# Altium integrated library ON Semi Signal Management Modems & Transceivers.IntLib: 97 symbols (part 1 of 5)
Pins are listed as number, name and electrical type; pins without a type are passive.

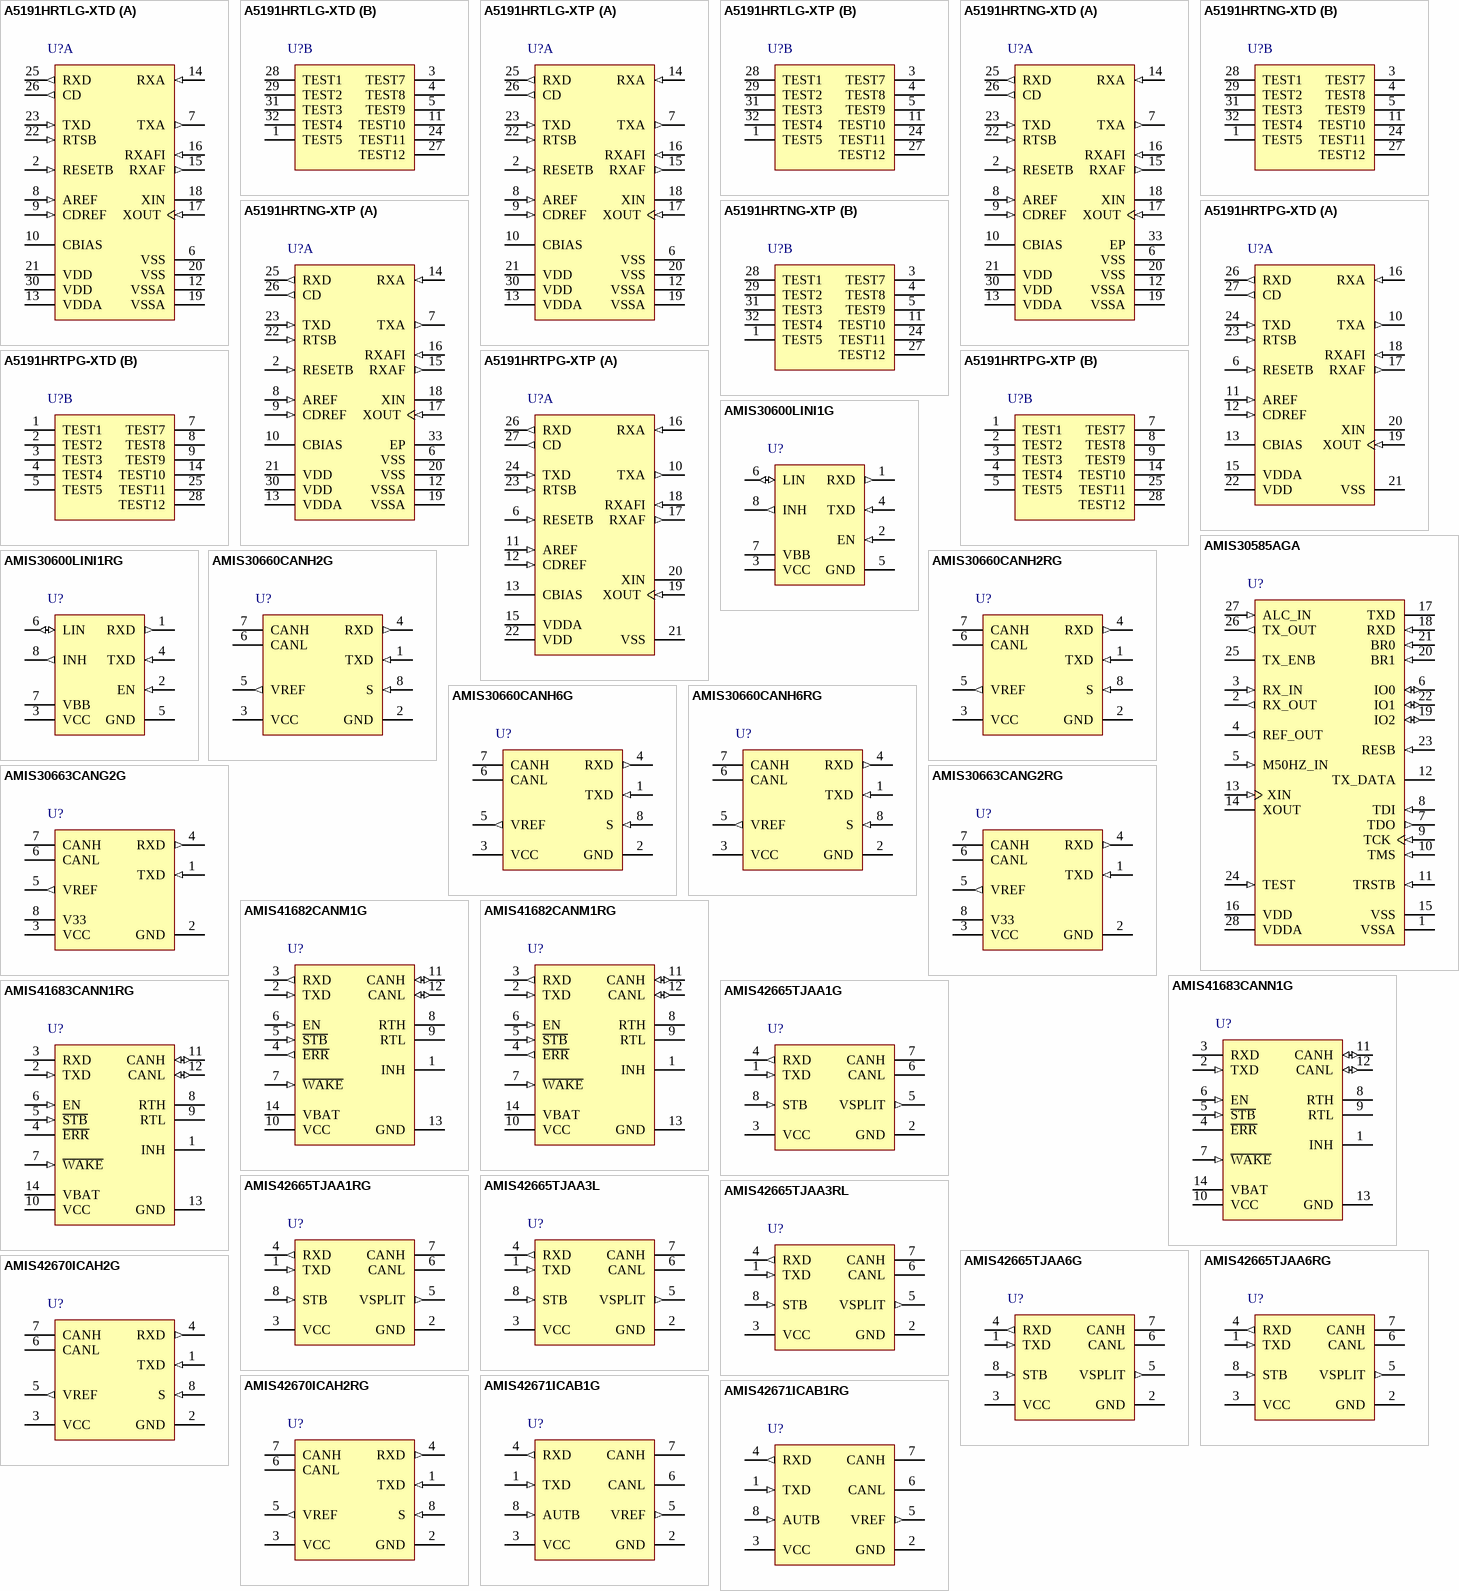
[diagram p0: symbols A5191HRTLG-XTD to AMIS42671ICAB1RG]

## A5191HRTLG-XTD
designator U?
HART Modem, 3 to 5.5 V, -40 to 85 degC, 32-Pin LQFP, Pb-Free, Tray; Manufacturer: On Semiconductor; PartNumber: A5191HRTLG-XTD; Data Rate: 1200 baud; Number of Drivers: 1; VCC Max (V): 5.5; VCC Min (V): 3; DatasheetVersion: Rev. 7; PackageVersion: Rev. O, 06/2008; PackageReference: LQFP-32-561AB-01; PackageDescription: 32-Pin Quad Flat Package, Body 7 x 7 mm, Pitch 0.8 mm; Supplier 1: Digi-Key; Supplier Part Number 1: 766-1011-ND; Supplier 2: Farnell; Supplier Part Number 2: 1641443; Supplier 3: Newark; Supplier Part Number 3: 03P1166; Supplier 4: Mouser; Supplier Part Number 4: 863-A5191HRTLG-XTD; Data Transmission Standard: HART; Number of Receivers: 1; Packing: Tray; RoHS: TRUE; Mounting Technology: Surface Mount; ComponentLink1Description: Manufacturer URL; ComponentLink1URL: http://www.onsemi.com/; ComponentLink2Description: Datasheet; ComponentLink2URL: http://www.onsemi.com/pub_link/Collateral/A5191HRT-D.PDF; ComponentLink3Description: Package Specification; ComponentLink3URL: http://www.onsemi.com/pub_link/Collateral/561AB.PDF
footprint ONSC-LQFP-32-561AB-01_N (QFP, 32-Leads, Body 7x7mm, Pitch 0.8mm, IPC Medium Density)
footprint ONSC-LQFP-32-561AB-01_L (QFP, 32-Leads, Body 7x7mm, Pitch 0.8mm, IPC High Density)
footprint ONSC-LQFP-32-561AB-01_M (QFP, 32-Leads, Body 7x7mm, Pitch 0.8mm, IPC Low Density)
part A pins: 2 RESETB (in) "Reset all digital logic when low", 6 VSS (power) "Digital ground", 7 TXA (out) "Transmit Data Modulator output", 8 AREF (in) "Analog reference voltage", 9 CDREF (in) "Carrier detect reference voltage", 10 CBIAS "Comparator bias current", 12 VSSA (power) "Analog ground", 13 VDDA (power) "Analog supply voltage", 14 RXA (in) "Receive Data Modulator input", 15 RXAF (out) "Analog receive filter output", 16 RXAFI (in) "Analog receive comparator input", 17 XOUT (in) "Crystal oscillator output", 18 XIN "Crystal oscillator input", 19 VSSA (power) "Analog ground", 20 VSS (power) "Ground", 21 VDD (power) "Digital supply voltage", 22 RTSB (in) "Request to send", 23 TXD (in) "Input transmit date, transmitted HART data stream from microcontroller", 25 RXD (out) "Received demodulated HART data to microcontroller", 26 CD (out) "Carrier detect output", 30 VDD (power) "Digital supply voltage"
part B pins: 1 TEST5 (power) "Connect to VSS", 3 TEST7 (power) "Connect to VSS", 4 TEST8 (power) "Connect to VSS", 5 TEST9 (power) "Connect to VSS", 11 TEST10 (power) "Connect to VSS", 24 TEST11 "Do Not Connect", 27 TEST12 "Do Not Connect", 28 TEST1 (power) "Connect to VSS", 29 TEST2 "Do Not Connect", 31 TEST3 "Do Not Connect", 32 TEST4 "Do Not Connect"

## A5191HRTLG-XTP
designator U?
HART Modem, 3 to 5.5 V, -40 to 85 degC, 32-Pin LQFP, Pb-Free, Tape and Reel; Manufacturer: On Semiconductor; PartNumber: A5191HRTLG-XTP; Data Rate: 1200 baud; Number of Drivers: 1; VCC Max (V): 5.5; VCC Min (V): 3; DatasheetVersion: Rev. 7; PackageVersion: Rev. O, 06/2008; PackageReference: LQFP-32-561AB-01; PackageDescription: 32-Pin Quad Flat Package, Body 7 x 7 mm, Pitch 0.8 mm; Supplier 1: Digi-Key; Supplier Part Number 1: A5191HRTLG-XTPOSTR-ND; Supplier 2: Digi-Key; Supplier Part Number 2: A5191HRTLG-XTPOSCT-ND; Supplier 3: Digi-Key; Supplier Part Number 3: A5191HRTLG-XTPOSDKR-ND; Supplier 4: Newark; Supplier Part Number 4: 51P3131; Supplier 5: Mouser; Supplier Part Number 5: 863-A5191HRTLG-XTP; Data Transmission Standard: HART; Number of Receivers: 1; Packing: Tape and Reel; RoHS: TRUE; Mounting Technology: Surface Mount; ComponentLink1Description: Manufacturer URL; ComponentLink1URL: http://www.onsemi.com/; ComponentLink2Description: Datasheet; ComponentLink2URL: http://www.onsemi.com/pub_link/Collateral/A5191HRT-D.PDF; ComponentLink3Description: Package Specification; ComponentLink3URL: http://www.onsemi.com/pub_link/Collateral/561AB.PDF
footprint ONSC-LQFP-32-561AB-01_N (QFP, 32-Leads, Body 7x7mm, Pitch 0.8mm, IPC Medium Density)
footprint ONSC-LQFP-32-561AB-01_L (QFP, 32-Leads, Body 7x7mm, Pitch 0.8mm, IPC High Density)
footprint ONSC-LQFP-32-561AB-01_M (QFP, 32-Leads, Body 7x7mm, Pitch 0.8mm, IPC Low Density)
part A pins: 2 RESETB (in) "Reset all digital logic when low", 6 VSS (power) "Digital ground", 7 TXA (out) "Transmit Data Modulator output", 8 AREF (in) "Analog reference voltage", 9 CDREF (in) "Carrier detect reference voltage", 10 CBIAS "Comparator bias current", 12 VSSA (power) "Analog ground", 13 VDDA (power) "Analog supply voltage", 14 RXA (in) "Receive Data Modulator input", 15 RXAF (out) "Analog receive filter output", 16 RXAFI (in) "Analog receive comparator input", 17 XOUT (in) "Crystal oscillator output", 18 XIN "Crystal oscillator input", 19 VSSA (power) "Analog ground", 20 VSS (power) "Ground", 21 VDD (power) "Digital supply voltage", 22 RTSB (in) "Request to send", 23 TXD (in) "Input transmit date, transmitted HART data stream from microcontroller", 25 RXD (out) "Received demodulated HART data to microcontroller", 26 CD (out) "Carrier detect output", 30 VDD (power) "Digital supply voltage"
part B pins: 1 TEST5 (power) "Connect to VSS", 3 TEST7 (power) "Connect to VSS", 4 TEST8 (power) "Connect to VSS", 5 TEST9 (power) "Connect to VSS", 11 TEST10 (power) "Connect to VSS", 24 TEST11 "Do Not Connect", 27 TEST12 "Do Not Connect", 28 TEST1 (power) "Connect to VSS", 29 TEST2 "Do Not Connect", 31 TEST3 "Do Not Connect", 32 TEST4 "Do Not Connect"

## A5191HRTNG-XTD
designator U?
HART Modem, 3 to 5.5 V, -40 to 85 degC, 32-Pin QFN, Pb-Free, Tube; Manufacturer: On Semiconductor; PartNumber: A5191HRTNG-XTD; Data Rate: 1200 baud; Number of Drivers: 1; VCC Max (V): 5.5; VCC Min (V): 3; DatasheetVersion: Rev. 7; PackageVersion: Rev. O; PackageReference: QFN-32-488AM-01_O; PackageDescription: 32-Pin Quad Flat No-Lead, Body 5 x 5 mm, Pitch 0.5 mm; Supplier 1: Digi-Key; Supplier Part Number 1: A5191HRTNG-XTDOS-ND; Supplier 2: Mouser; Supplier Part Number 2: 863-A5191HRTNG-XTD; Data Transmission Standard: HART; Number of Receivers: 1; Packing: Tube; RoHS: TRUE; Mounting Technology: Surface Mount; ComponentLink1Description: Manufacturer URL; ComponentLink1URL: http://www.onsemi.com/; ComponentLink2Description: Datasheet; ComponentLink2URL: http://www.onsemi.com/pub_link/Collateral/A5191HRT-D.PDF; ComponentLink3Description: Package Specification; ComponentLink3URL: http://www.onsemi.com/pub_link/Collateral/MC100EPT622-D.PDF
footprint ONSC-QFN-32-488AM-01_O_V (QFN, 32-Leads, Body 5x5mm, Pitch 0.5mm, Thermal Pad 3.2x3.2mm)
part A pins: 2 RESETB (in) "Reset all digital logic when low", 6 VSS (power) "Digital ground", 7 TXA (out) "Transmit Data Modulator output", 8 AREF (in) "Analog reference voltage", 9 CDREF (in) "Carrier detect reference voltage", 10 CBIAS "Comparator bias current", 12 VSSA (power) "Analog ground", 13 VDDA (power) "Analog supply voltage", 14 RXA (in) "Receive Data Modulator input", 15 RXAF (out) "Analog receive filter output", 16 RXAFI (in) "Analog receive comparator input", 17 XOUT (in) "Crystal oscillator output", 18 XIN "Crystal oscillator input", 19 VSSA (power) "Analog ground", 20 VSS (power) "Ground", 21 VDD (power) "Digital supply voltage", 22 RTSB (in) "Request to send", 23 TXD (in) "Input transmit date, transmitted HART data stream from microcontroller", 25 RXD (out) "Received demodulated HART data to microcontroller", 26 CD (out) "Carrier detect output", 30 VDD (power) "Digital supply voltage", 33 EP (power) "Connect to VSS (QFN only)"
part B pins: 1 TEST5 (power) "Connect to VSS", 3 TEST7 (power) "Connect to VSS", 4 TEST8 (power) "Connect to VSS", 5 TEST9 (power) "Connect to VSS", 11 TEST10 (power) "Connect to VSS", 24 TEST11 "Do Not Connect", 27 TEST12 "Do Not Connect", 28 TEST1 (power) "Connect to VSS", 29 TEST2 "Do Not Connect", 31 TEST3 "Do Not Connect", 32 TEST4 "Do Not Connect"

## A5191HRTNG-XTP
designator U?
HART Modem, 3 to 5.5 V, -40 to 85 degC, 32-Pin QFN, Pb-Free, Tape and Reel; Manufacturer: On Semiconductor; PartNumber: A5191HRTNG-XTP; Data Rate: 1200 baud; Number of Drivers: 1; VCC Max (V): 5.5; VCC Min (V): 3; DatasheetVersion: Rev. 7; PackageVersion: Rev. O; PackageReference: QFN-32-488AM-01_O; PackageDescription: 32-Pin Quad Flat No-Lead, Body 5 x 5 mm, Pitch 0.5 mm; Supplier 1: Digi-Key; Supplier Part Number 1: A5191HRTNG-XTP-ND; Supplier 2: Mouser; Supplier Part Number 2: 863-A5191HRTNG-XTP; Data Transmission Standard: HART; Number of Receivers: 1; Packing: Tape and Reel; RoHS: TRUE; Mounting Technology: Surface Mount; ComponentLink1Description: Manufacturer URL; ComponentLink1URL: http://www.onsemi.com/; ComponentLink2Description: Datasheet; ComponentLink2URL: http://www.onsemi.com/pub_link/Collateral/A5191HRT-D.PDF; ComponentLink3Description: Package Specification; ComponentLink3URL: http://www.onsemi.com/pub_link/Collateral/MC100EPT622-D.PDF
footprint ONSC-QFN-32-488AM-01_O_V (QFN, 32-Leads, Body 5x5mm, Pitch 0.5mm, Thermal Pad 3.2x3.2mm)
part A pins: 2 RESETB (in) "Reset all digital logic when low", 6 VSS (power) "Digital ground", 7 TXA (out) "Transmit Data Modulator output", 8 AREF (in) "Analog reference voltage", 9 CDREF (in) "Carrier detect reference voltage", 10 CBIAS "Comparator bias current", 12 VSSA (power) "Analog ground", 13 VDDA (power) "Analog supply voltage", 14 RXA (in) "Receive Data Modulator input", 15 RXAF (out) "Analog receive filter output", 16 RXAFI (in) "Analog receive comparator input", 17 XOUT (in) "Crystal oscillator output", 18 XIN "Crystal oscillator input", 19 VSSA (power) "Analog ground", 20 VSS (power) "Ground", 21 VDD (power) "Digital supply voltage", 22 RTSB (in) "Request to send", 23 TXD (in) "Input transmit date, transmitted HART data stream from microcontroller", 25 RXD (out) "Received demodulated HART data to microcontroller", 26 CD (out) "Carrier detect output", 30 VDD (power) "Digital supply voltage", 33 EP (power) "Connect to VSS (QFN only)"
part B pins: 1 TEST5 (power) "Connect to VSS", 3 TEST7 (power) "Connect to VSS", 4 TEST8 (power) "Connect to VSS", 5 TEST9 (power) "Connect to VSS", 11 TEST10 (power) "Connect to VSS", 24 TEST11 "Do Not Connect", 27 TEST12 "Do Not Connect", 28 TEST1 (power) "Connect to VSS", 29 TEST2 "Do Not Connect", 31 TEST3 "Do Not Connect", 32 TEST4 "Do Not Connect"

## A5191HRTPG-XTD
designator U?
HART Modem, 3 to 5.5 V, -40 to 85 degC, 28-Pin PLCC, Pb-Free, Tube; Manufacturer: On Semiconductor; PartNumber: A5191HRTPG-XTD; Data Rate: 1200 baud; Number of Drivers: 1; VCC Max (V): 5.5; VCC Min (V): 3; DatasheetVersion: Rev. 7; PackageVersion: Rev. O, 06/2008; PackageReference: PLCC-28-776AA-01; PackageDescription: 28-Pin Plastic Leaded Chip Carrier, Body 11.51 x 11.51 mm, Pitch 1.27 mm; Supplier 1: Digi-Key; Supplier Part Number 1: 766-1012-ND; Supplier 2: Newark; Supplier Part Number 2: 03P1167; Supplier 3: Mouser; Supplier Part Number 3: 863-A5191HRTPG-XTD; Data Transmission Standard: HART; Number of Receivers: 1; Packing: Tube; RoHS: TRUE; Mounting Technology: Surface Mount; ComponentLink1Description: Manufacturer URL; ComponentLink1URL: http://www.onsemi.com/; ComponentLink2Description: Datasheet; ComponentLink2URL: http://www.onsemi.com/pub_link/Collateral/A5191HRT-D.PDF; ComponentLink3Description: Package Specification; ComponentLink3URL: http://www.onsemi.com/pub_link/Collateral/776AA.PDF
footprint ONSC-PLCC-28-776AA-01_N (PLCC, 28-Leads, Body 11.58x11.58mm, Pitch 1.27mm, IPC Medium Density)
footprint ONSC-PLCC-28-776AA-01_L (PLCC, 28-Leads, Body 11.58x11.58mm, Pitch 1.27mm, IPC High Density)
footprint ONSC-PLCC-28-776AA-01_M (PLCC, 28-Leads, Body 11.58x11.58mm, Pitch 1.27mm, IPC Low Density)
part A pins: 6 RESETB (in) "Reset all digital logic when low", 10 TXA (out) "Transmit Data Modulator output", 11 AREF (in) "Analog reference voltage", 12 CDREF (in) "Carrier detect reference voltage", 13 CBIAS "Comparator bias current", 15 VDDA (power) "Analog supply voltage", 16 RXA (in) "Receive Data Modulator input", 17 RXAF (out) "Analog receive filter output", 18 RXAFI (in) "Analog receive comparator input", 19 XOUT (in) "Crystal oscillator output", 20 XIN "Crystal oscillator input", 21 VSS (power) "Ground", 22 VDD (power) "Digital supply voltage", 23 RTSB (in) "Request to send", 24 TXD (in) "Input transmit date, transmitted HART data stream from microcontroller", 26 RXD (out) "Received demodulated HART data to microcontroller", 27 CD (out) "Carrier detect output"
part B pins: 1 TEST1 (power) "Connect to VSS", 2 TEST2 "Do Not Connect", 3 TEST3 "Do Not Connect", 4 TEST4 "Do Not Connect", 5 TEST5 (power) "Connect to VSS", 7 TEST7 (power) "Connect to VSS", 8 TEST8 (power) "Connect to VSS", 9 TEST9 (power) "Connect to VSS", 14 TEST10 (power) "Connect to VSS", 25 TEST11 "Do Not Connect", 28 TEST12 "Do Not Connect"

## A5191HRTPG-XTP
designator U?
HART Modem, 3 to 5.5 V, -40 to 85 degC, 28-Pin PLCC, Pb-Free, Tape and Reel; Manufacturer: On Semiconductor; PartNumber: A5191HRTPG-XTP; Data Rate: 1200 baud; Number of Drivers: 1; VCC Max (V): 5.5; VCC Min (V): 3; DatasheetVersion: Rev. 7; PackageVersion: Rev. O, 06/2008; PackageReference: PLCC-28-776AA-01; PackageDescription: 28-Pin Plastic Leaded Chip Carrier, Body 11.51 x 11.51 mm, Pitch 1.27 mm; Supplier 1: Digi-Key; Supplier Part Number 1: A5191HRTPG-XTPOSTR-ND; Supplier 2: Digi-Key; Supplier Part Number 2: A5191HRTPG-XTPOSCT-ND; Supplier 3: Digi-Key; Supplier Part Number 3: A5191HRTPG-XTPOSDKR-ND; Supplier 4: Newark; Supplier Part Number 4: 05R9021; Supplier 5: Mouser; Supplier Part Number 5: 863-A5191HRTPG-XTP; Data Transmission Standard: HART; Number of Receivers: 1; Packing: Tape and Reel; RoHS: TRUE; Mounting Technology: Surface Mount; ComponentLink1Description: Manufacturer URL; ComponentLink1URL: http://www.onsemi.com/; ComponentLink2Description: Datasheet; ComponentLink2URL: http://www.onsemi.com/pub_link/Collateral/A5191HRT-D.PDF; ComponentLink3Description: Package Specification; ComponentLink3URL: http://www.onsemi.com/pub_link/Collateral/776AA.PDF
footprint ONSC-PLCC-28-776AA-01_N (PLCC, 28-Leads, Body 11.58x11.58mm, Pitch 1.27mm, IPC Medium Density)
footprint ONSC-PLCC-28-776AA-01_L (PLCC, 28-Leads, Body 11.58x11.58mm, Pitch 1.27mm, IPC High Density)
footprint ONSC-PLCC-28-776AA-01_M (PLCC, 28-Leads, Body 11.58x11.58mm, Pitch 1.27mm, IPC Low Density)
part A pins: 6 RESETB (in) "Reset all digital logic when low", 10 TXA (out) "Transmit Data Modulator output", 11 AREF (in) "Analog reference voltage", 12 CDREF (in) "Carrier detect reference voltage", 13 CBIAS "Comparator bias current", 15 VDDA (power) "Analog supply voltage", 16 RXA (in) "Receive Data Modulator input", 17 RXAF (out) "Analog receive filter output", 18 RXAFI (in) "Analog receive comparator input", 19 XOUT (in) "Crystal oscillator output", 20 XIN "Crystal oscillator input", 21 VSS (power) "Ground", 22 VDD (power) "Digital supply voltage", 23 RTSB (in) "Request to send", 24 TXD (in) "Input transmit date, transmitted HART data stream from microcontroller", 26 RXD (out) "Received demodulated HART data to microcontroller", 27 CD (out) "Carrier detect output"
part B pins: 1 TEST1 (power) "Connect to VSS", 2 TEST2 "Do Not Connect", 3 TEST3 "Do Not Connect", 4 TEST4 "Do Not Connect", 5 TEST5 (power) "Connect to VSS", 7 TEST7 (power) "Connect to VSS", 8 TEST8 (power) "Connect to VSS", 9 TEST9 (power) "Connect to VSS", 14 TEST10 (power) "Connect to VSS", 25 TEST11 "Do Not Connect", 28 TEST12 "Do Not Connect"

## AMIS30585AGA
designator U?
S-FSK PLC Modem, 3 to 3.6 V, -25 to 70 degC, 28-Pin PLCC, Pb-Free, Tube; Manufacturer: On Semiconductor; PartNumber: AMIS30585AGA; Number of Drivers: 1; VCC Max (V): 3.6; VCC Min (V): 3; DatasheetVersion: Rev. 2; PackageVersion: Rev. O, 06/2008; PackageReference: PLCC-28-776AA-01; PackageDescription: 28-Pin Plastic Leaded Chip Carrier, Body 11.51 x 11.51 mm, Pitch 1.27 mm; Data Transmission Standard: S-FSK; Number of Receivers: 1; Packing: Tube; RoHS: TRUE; Mounting Technology: Surface Mount; ComponentLink1Description: Manufacturer URL; ComponentLink1URL: http://www.onsemi.com/; ComponentLink2Description: Datasheet; ComponentLink2URL: http://www.onsemi.com/pub_link/Collateral/AMIS-30585-D.PDF; ComponentLink3Description: Package Specification; ComponentLink3URL: http://www.onsemi.com/pub_link/Collateral/776AA.PDF
footprint ONSC-PLCC-28-776AA-01_N (PLCC, 28-Leads, Body 11.58x11.58mm, Pitch 1.27mm, IPC Medium Density)
footprint ONSC-PLCC-28-776AA-01_L (PLCC, 28-Leads, Body 11.58x11.58mm, Pitch 1.27mm, IPC High Density)
footprint ONSC-PLCC-28-776AA-01_M (PLCC, 28-Leads, Body 11.58x11.58mm, Pitch 1.27mm, IPC Low Density)
pins: 1 VSSA (power) "Analog ground", 2 RX_OUT (out) "Output of input stage opamp", 3 RX_IN (in) "Positive input of input stage opamp", 4 REF_OUT (out) "Reference output for stabilization", 5 M50HZ_IN (in) "50.60 Hz input", 6 IO0 (io) "Programmable IO pin (open drain)", 7 TDO (out) "Test data output", 8 TDI (in) "Test data output (internal pull down)", 9 TCK (in) "Test clock (internal pull down)", 10 TMS (in) "Test mode select (internal pull down)", 11 TRSTB (in) "Test reset bar (internal pull down, active low)", 12 TX_DATA (oc) "Data output corresponding to transmitted frequency", 13 XIN (in) "Xtal input (can be driven by an internal clock)", 14 XOUT "Xtal output (output floating when XIN driven by external clock)", 15 VSS (power) "Digital ground", 16 VDD (power) "3.3 V digital supply", 17 TXD (oc) "SCI transmit output (open drain)", 18 RXD (in) "SCI receive input (Schmitt trigger output)", 19 IO2 (io) "Programmable IO pin + interrupt (open drain)", 20 BR1 (in) "SCI baud rate selection", 21 BR0 (in) "SCI baud rate selection", 22 IO1 (io) "Programmable IO pin (open drain)", 23 RESB (in) "Master reset bar (Schmitt trigger input, active low)", 24 TEST (in) "Test enable (internal pull down)", 25 TX_ENB (oc) "TX enable bar (open drain)", 26 TX_OUT (out) "Transmitter output", 27 ALC_IN (in) "Automatic level control input", 28 VDDA (power) "3.3 V analog supply"

## AMIS30600LINI1G
designator U?
LIN Transceiver, 4.75 to 5.25 V, -40 to 125 degC, 8-Pin SOIC, Pb-Free, Tube; Manufacturer: On Semiconductor; PartNumber: AMIS30600LINI1G; Data Rate: 20 kbaud; Number of Drivers: 1; VCC Max (V): 5.25; VCC Min (V): 4.75; DatasheetVersion: Rev. 8; PackageVersion: Rev. O, 09/2008; PackageReference: SOIC-8-751AZ-01; PackageDescription: 8-Pin Small Outline Integrated Circuit, Body 4.9 x 3.9 mm, Pitch 1.27 mm; Supplier 1: Digi-Key; Supplier Part Number 1: 766-1013-ND; Supplier 2: Mouser; Supplier Part Number 2: 863-AMIS30600LINI1G; Data Transmission Standard: LIN; Number of Receivers: 1; Packing: Tube; RoHS: TRUE; Mounting Technology: Surface Mount; ComponentLink1Description: Manufacturer URL; ComponentLink1URL: http://www.onsemi.com/; ComponentLink2Description: Datasheet; ComponentLink2URL: http://www.onsemi.com/pub_link/Collateral/AMIS-30600-D.PDF; ComponentLink3Description: Package Specification; ComponentLink3URL: http://www.onsemi.com/pub_link/Collateral/751AZ.PDF
footprint ONSC-SOIC-8-751AZ-01_N (SOIC, 8-Leads, Body 5x4mm, Pitch 1.27mm, IPC Medium Density)
footprint ONSC-SOIC-8-751AZ-01_L (SOIC, 8-Leads, Body 5x4mm, Pitch 1.27mm, IPC High Density)
footprint ONSC-SOIC-8-751AZ-01_M (SOIC, 8-Leads, Body 5x4mm, Pitch 1.27mm, IPC Low Density)
pins: 1 RXD (out) "Receive data output; low in dominant state", 2 EN (in) "Enable input; transceiver in normal operation mode when high", 3 VCC (power) "5V supply input", 4 TXD (in) "Transmit data input; low in dominant state; internal 40 k ohm pullup", 5 GND (power) "Ground", 6 LIN (io) "LIN bus output/input; low in dominant state; internal 30 k ohm pullup", 7 VBB (power) "Battery supply input", 8 INH (out) "Inhibit output; to control a voltage regulator; becomes high when wake-up via LIN bus occurs"

## AMIS30600LINI1RG
designator U?
LIN Transceiver, 4.75 to 5.25 V, -40 to 125 degC, 8-Pin SOIC, Pb-Free, Tape and Reel; Manufacturer: On Semiconductor; PartNumber: AMIS30600LINI1RG; Data Rate: 20 kbaud; Number of Drivers: 1; VCC Max (V): 5.25; VCC Min (V): 4.75; DatasheetVersion: Rev. 8; PackageVersion: Rev. O, 09/2008; PackageReference: SOIC-8-751AZ-01; PackageDescription: 8-Pin Small Outline Integrated Circuit, Body 4.9 x 3.9 mm, Pitch 1.27 mm; Supplier 1: Digi-Key; Supplier Part Number 1: 766-1000-2-ND; Supplier 2: Digi-Key; Supplier Part Number 2: 766-1000-1-ND; Supplier 3: Digi-Key; Supplier Part Number 3: 766-1000-6-ND; Supplier 4: Newark; Supplier Part Number 4: 03P1153; Supplier 5: Mouser; Supplier Part Number 5: 863-AMIS30600LINI1RG; Data Transmission Standard: LIN; Number of Receivers: 1; Packing: Tape and Reel; RoHS: TRUE; Mounting Technology: Surface Mount; ComponentLink1Description: Manufacturer URL; ComponentLink1URL: http://www.onsemi.com/; ComponentLink2Description: Datasheet; ComponentLink2URL: http://www.onsemi.com/pub_link/Collateral/AMIS-30600-D.PDF; ComponentLink3Description: Package Specification; ComponentLink3URL: http://www.onsemi.com/pub_link/Collateral/751AZ.PDF
footprint ONSC-SOIC-8-751AZ-01_N (SOIC, 8-Leads, Body 5x4mm, Pitch 1.27mm, IPC Medium Density)
footprint ONSC-SOIC-8-751AZ-01_L (SOIC, 8-Leads, Body 5x4mm, Pitch 1.27mm, IPC High Density)
footprint ONSC-SOIC-8-751AZ-01_M (SOIC, 8-Leads, Body 5x4mm, Pitch 1.27mm, IPC Low Density)
pins: 1 RXD (out) "Receive data output; low in dominant state", 2 EN (in) "Enable input; transceiver in normal operation mode when high", 3 VCC (power) "5V supply input", 4 TXD (in) "Transmit data input; low in dominant state; internal 40 k ohm pullup", 5 GND (power) "Ground", 6 LIN (io) "LIN bus output/input; low in dominant state; internal 30 k ohm pullup", 7 VBB (power) "Battery supply input", 8 INH (out) "Inhibit output; to control a voltage regulator; becomes high when wake-up via LIN bus occurs"

## AMIS30660CANH2G
designator U?
High Speed CAN Transceiver, 4.75 to 5.25 V, -40 to 125 degC, 8-Pin SOIC, Pb-Free, Tube; Manufacturer: On Semiconductor; PartNumber: AMIS30660CANH2G; Data Rate: 1 Mb/s; Number of Drivers: 1; VCC Max (V): 5.25; VCC Min (V): 4.75; DatasheetVersion: Rev. 10; PackageVersion: Rev. AK, 02/2011; PackageReference: SOIC-8-751-07; PackageDescription: 8-Pin Small Outline Integrated Circuit, Body 4.9 x 3.9 mm, Pitch 1.27 mm; Supplier 1: Digi-Key; Supplier Part Number 1: 766-1014-ND; Supplier 2: Farnell; Supplier Part Number 2: 1641429; Supplier 3: Newark; Supplier Part Number 3: 03P1154; Supplier 4: Mouser; Supplier Part Number 4: 863-AMIS30660CANH2G; Data Transmission Standard: CAN; Number of Receivers: 1; Packing: Tube; RoHS: TRUE; Mounting Technology: Surface Mount; ComponentLink1Description: Manufacturer URL; ComponentLink1URL: http://www.onsemi.com/; ComponentLink2Description: Datasheet; ComponentLink2URL: http://www.onsemi.com/pub_link/Collateral/AMIS-30660-D.PDF; ComponentLink3Description: Package Specification; ComponentLink3URL: http://www.onsemi.com/pub_link/Collateral/751-07.PDF
footprint ONSC-SOIC-8-751-07_V (SOIC, 8-Leads, Body 4.9x3.9mm, Pitch 1.27mm)
pins: 1 TXD (in) "Transmit data input; low input --> dominant driver; internal pull-up current", 2 GND (power) "Ground", 3 VCC (power) "Supply voltage", 4 RXD (out) "Receive data output; dominant transmitter --> low output", 5 VREF (out) "Reference voltage output", 6 CANL "Low-level CAN bus line (low in dominant mode)", 7 CANH "High-level CAN bus line (high in dominant mode)", 8 S (in) "Silent mode control input; internal pull-down current"

## AMIS30660CANH2RG
designator U?
High Speed CAN Transceiver, 4.75 to 5.25 V, -40 to 125 degC, 8-Pin SOIC, Pb-Free, Tape and Reel; Manufacturer: On Semiconductor; PartNumber: AMIS30660CANH2RG; Data Rate: 1 Mb/s; Number of Drivers: 1; VCC Max (V): 5.25; VCC Min (V): 4.75; DatasheetVersion: Rev. 10; PackageVersion: Rev. AK, 02/2011; PackageReference: SOIC-8-751-07; PackageDescription: 8-Pin Small Outline Integrated Circuit, Body 4.9 x 3.9 mm, Pitch 1.27 mm; Supplier 1: Digi-Key; Supplier Part Number 1: 766-1003-2-ND; Supplier 2: Digi-Key; Supplier Part Number 2: 766-1003-1-ND; Supplier 3: Digi-Key; Supplier Part Number 3: 766-1003-6-ND; Supplier 4: Newark; Supplier Part Number 4: 03P1155; Supplier 5: Mouser; Supplier Part Number 5: 863-AMIS30660CANH2RG; Data Transmission Standard: CAN; Number of Receivers: 1; Packing: Tape and Reel; RoHS: TRUE; Mounting Technology: Surface Mount; ComponentLink1Description: Manufacturer URL; ComponentLink1URL: http://www.onsemi.com/; ComponentLink2Description: Datasheet; ComponentLink2URL: http://www.onsemi.com/pub_link/Collateral/AMIS-30660-D.PDF; ComponentLink3Description: Package Specification; ComponentLink3URL: http://www.onsemi.com/pub_link/Collateral/751-07.PDF
footprint ONSC-SOIC-8-751-07_V (SOIC, 8-Leads, Body 4.9x3.9mm, Pitch 1.27mm)
pins: 1 TXD (in) "Transmit data input; low input --> dominant driver; internal pull-up current", 2 GND (power) "Ground", 3 VCC (power) "Supply voltage", 4 RXD (out) "Receive data output; dominant transmitter --> low output", 5 VREF (out) "Reference voltage output", 6 CANL "Low-level CAN bus line (low in dominant mode)", 7 CANH "High-level CAN bus line (high in dominant mode)", 8 S (in) "Silent mode control input; internal pull-down current"

## AMIS30660CANH6G
designator U?
High Speed CAN Transceiver, 4.75 to 5.25 V, -40 to 125 degC, 8-Pin SOIC, Pb-Free, Tube; Manufacturer: On Semiconductor; PartNumber: AMIS30660CANH6G; Data Rate: 1 Mb/s; Number of Drivers: 1; VCC Max (V): 5.25; VCC Min (V): 4.75; DatasheetVersion: Rev. 10; PackageVersion: Rev. AK, 02/2011; PackageReference: SOIC-8-751-07; PackageDescription: 8-Pin Small Outline Integrated Circuit, Body 4.9 x 3.9 mm, Pitch 1.27 mm; Supplier 1: Digi-Key; Supplier Part Number 1: AMIS30660CANH6G-ND; Supplier 2: Mouser; Supplier Part Number 2: 863-AMIS30660CANH6G; Data Transmission Standard: CAN; Number of Receivers: 1; Packing: Tube; RoHS: TRUE; Mounting Technology: Surface Mount; ComponentLink1Description: Manufacturer URL; ComponentLink1URL: http://www.onsemi.com/; ComponentLink2Description: Datasheet; ComponentLink2URL: http://www.onsemi.com/pub_link/Collateral/AMIS-30660-D.PDF; ComponentLink3Description: Package Specification; ComponentLink3URL: http://www.onsemi.com/pub_link/Collateral/751-07.PDF
footprint ONSC-SOIC-8-751-07_V (SOIC, 8-Leads, Body 4.9x3.9mm, Pitch 1.27mm)
pins: 1 TXD (in) "Transmit data input; low input --> dominant driver; internal pull-up current", 2 GND (power) "Ground", 3 VCC (power) "Supply voltage", 4 RXD (out) "Receive data output; dominant transmitter --> low output", 5 VREF (out) "Reference voltage output", 6 CANL "Low-level CAN bus line (low in dominant mode)", 7 CANH "High-level CAN bus line (high in dominant mode)", 8 S (in) "Silent mode control input; internal pull-down current"

## AMIS30660CANH6RG
designator U?
High Speed CAN Transceiver, 4.75 to 5.25 V, -40 to 125 degC, 8-Pin SOIC, Pb-Free, Tape and Reel; Manufacturer: On Semiconductor; PartNumber: AMIS30660CANH6RG; Data Rate: 1 Mb/s; Number of Drivers: 1; VCC Max (V): 5.25; VCC Min (V): 4.75; DatasheetVersion: Rev. 10; PackageVersion: Rev. AK, 02/2011; PackageReference: SOIC-8-751-07; PackageDescription: 8-Pin Small Outline Integrated Circuit, Body 4.9 x 3.9 mm, Pitch 1.27 mm; Supplier 1: Digi-Key; Supplier Part Number 1: AMIS30660CANH6RG-ND; Supplier 2: Mouser; Supplier Part Number 2: 863-AMIS30660CANH6RG; Data Transmission Standard: CAN; Number of Receivers: 1; Packing: Tape and Reel; RoHS: TRUE; Mounting Technology: Surface Mount; ComponentLink1Description: Manufacturer URL; ComponentLink1URL: http://www.onsemi.com/; ComponentLink2Description: Datasheet; ComponentLink2URL: http://www.onsemi.com/pub_link/Collateral/AMIS-30660-D.PDF; ComponentLink3Description: Package Specification; ComponentLink3URL: http://www.onsemi.com/pub_link/Collateral/751-07.PDF
footprint ONSC-SOIC-8-751-07_V (SOIC, 8-Leads, Body 4.9x3.9mm, Pitch 1.27mm)
pins: 1 TXD (in) "Transmit data input; low input --> dominant driver; internal pull-up current", 2 GND (power) "Ground", 3 VCC (power) "Supply voltage", 4 RXD (out) "Receive data output; dominant transmitter --> low output", 5 VREF (out) "Reference voltage output", 6 CANL "Low-level CAN bus line (low in dominant mode)", 7 CANH "High-level CAN bus line (high in dominant mode)", 8 S (in) "Silent mode control input; internal pull-down current"

## AMIS30663CANG2G
designator U?
High Speed CAN Transceiver, 4.75 to 5.25 V, -40 to 125 degC, 8-Pin SOIC, Pb-Free, Tube; Manufacturer: On Semiconductor; PartNumber: AMIS30663CANG2G; Data Rate: 1 Mb/s; Number of Drivers: 1; VCC Max (V): 5.25; VCC Min (V): 4.75; DatasheetVersion: Rev. 6; PackageVersion: Rev. O, 09/2008; PackageReference: SOIC-8-751AZ-01; PackageDescription: 8-Pin Small Outline Integrated Circuit, Body 4.9 x 3.9 mm, Pitch 1.27 mm; Supplier 1: Digi-Key; Supplier Part Number 1: 766-1015-ND; Supplier 2: Farnell; Supplier Part Number 2: 1641431; Supplier 3: Newark; Supplier Part Number 3: 03P1156; Supplier 4: Mouser; Supplier Part Number 4: 863-AMIS30663CANG2G; Data Transmission Standard: CAN; Number of Receivers: 1; Packing: Tube; RoHS: TRUE; Mounting Technology: Surface Mount; ComponentLink1Description: Manufacturer URL; ComponentLink1URL: http://www.onsemi.com/; ComponentLink2Description: Datasheet; ComponentLink2URL: http://www.onsemi.com/pub_link/Collateral/AMIS-30663-D.PDF; ComponentLink3Description: Package Specification; ComponentLink3URL: http://www.onsemi.com/pub_link/Collateral/751AZ.PDF
footprint ONSC-SOIC-8-751AZ-01_N (SOIC, 8-Leads, Body 5x4mm, Pitch 1.27mm, IPC Medium Density)
footprint ONSC-SOIC-8-751AZ-01_L (SOIC, 8-Leads, Body 5x4mm, Pitch 1.27mm, IPC High Density)
footprint ONSC-SOIC-8-751AZ-01_M (SOIC, 8-Leads, Body 5x4mm, Pitch 1.27mm, IPC Low Density)
pins: 1 TXD (in) "Transmit Data Input; Low Input --> Dominant Driver; Internal Pullup Current", 2 GND (power) "Ground", 3 VCC (power) "Supply Voltage", 4 RXD (out) "Receive Data Output; Dominant Transmitter --> Low Output", 5 VREF (out) "Reference Voltage Output", 6 CANL "Low-Level CAN Bus Line (Low in Dominant Mode)", 7 CANH "High-Level CAN Bus Line (High in Dominant Mode)", 8 V33 (power) "3.3 V Supply for Digital I/O"

## AMIS30663CANG2RG
designator U?
High Speed CAN Transceiver, 4.75 to 5.25 V, -40 to 125 degC, 8-Pin SOIC, Pb-Free, Tape and Reel; Manufacturer: On Semiconductor; PartNumber: AMIS30663CANG2RG; Data Rate: 1 Mb/s; Number of Drivers: 1; VCC Max (V): 5.25; VCC Min (V): 4.75; DatasheetVersion: Rev. 6; PackageVersion: Rev. O, 09/2008; PackageReference: SOIC-8-751AZ-01; PackageDescription: 8-Pin Small Outline Integrated Circuit, Body 4.9 x 3.9 mm, Pitch 1.27 mm; Supplier 1: Digi-Key; Supplier Part Number 1: AMIS30663CANG2RG-ND; Supplier 2: Newark; Supplier Part Number 2: 05R9007; Supplier 3: Mouser; Supplier Part Number 3: 863-AMIS30663CANG2RG; Data Transmission Standard: CAN; Number of Receivers: 1; Packing: Tape and Reel; RoHS: TRUE; Mounting Technology: Surface Mount; ComponentLink1Description: Manufacturer URL; ComponentLink1URL: http://www.onsemi.com/; ComponentLink2Description: Datasheet; ComponentLink2URL: http://www.onsemi.com/pub_link/Collateral/AMIS-30663-D.PDF; ComponentLink3Description: Package Specification; ComponentLink3URL: http://www.onsemi.com/pub_link/Collateral/751AZ.PDF
footprint ONSC-SOIC-8-751AZ-01_N (SOIC, 8-Leads, Body 5x4mm, Pitch 1.27mm, IPC Medium Density)
footprint ONSC-SOIC-8-751AZ-01_L (SOIC, 8-Leads, Body 5x4mm, Pitch 1.27mm, IPC High Density)
footprint ONSC-SOIC-8-751AZ-01_M (SOIC, 8-Leads, Body 5x4mm, Pitch 1.27mm, IPC Low Density)
pins: 1 TXD (in) "Transmit Data Input; Low Input --> Dominant Driver; Internal Pullup Current", 2 GND (power) "Ground", 3 VCC (power) "Supply Voltage", 4 RXD (out) "Receive Data Output; Dominant Transmitter --> Low Output", 5 VREF (out) "Reference Voltage Output", 6 CANL "Low-Level CAN Bus Line (Low in Dominant Mode)", 7 CANH "High-Level CAN Bus Line (High in Dominant Mode)", 8 V33 (power) "3.3 V Supply for Digital I/O"

## AMIS41682CANM1G
designator U?
Fault Tolerant CAN Transceiver, 4.75 to 5.25 V, -40 to 125 degC, 14-Pin SOIC, Pb-Free, Tube; Manufacturer: On Semiconductor; PartNumber: AMIS41682CANM1G; Data Rate: 125 kbaud; Number of Drivers: 1; VCC Max (V): 5.25; VCC Min (V): 4.75; DatasheetVersion: Rev. 8; PackageVersion: Rev. A, 08/2008; PackageReference: SOIC-14-751AP-01; PackageDescription: 14-Pin Small Outline Integrated Circuit, Body 8.65 x 3.9 mm, Pitch 1.27 mm; Supplier 1: Digi-Key; Supplier Part Number 1: 766-1016-ND; Supplier 2: Newark; Supplier Part Number 2: 03P1157; Supplier 3: Mouser; Supplier Part Number 3: 863-AMIS41682CANM1G; Data Transmission Standard: CAN; Number of Receivers: 1; Packing: Tube; RoHS: TRUE; Mounting Technology: Surface Mount; ComponentLink1Description: Manufacturer URL; ComponentLink1URL: http://www.onsemi.com/; ComponentLink2Description: Datasheet; ComponentLink2URL: http://www.onsemi.com/pub_link/Collateral/AMIS-41682-D.PDF; ComponentLink3Description: Package Specification; ComponentLink3URL: http://www.onsemi.com/pub_link/Collateral/751AP.PDF
footprint ONSC-SOIC-14-751AP-01_N (SOIC, 14-Leads, Body 8.7x4mm, Pitch 1.27mm, IPC Medium Density)
footprint ONSC-SOIC-14-751AP-01_L (SOIC, 14-Leads, Body 8.7x4mm, Pitch 1.27mm, IPC High Density)
footprint ONSC-SOIC-14-751AP-01_M (SOIC, 14-Leads, Body 8.7x4mm, Pitch 1.27mm, IPC Low Density)
pins: 1 INH (hiz) "Inhibit Output for External Voltage Regulator", 2 TXD (in) "Transmit Data Input; Internal Pullup Current", 3 RXD (out) "Receive Data Output", 4 ~{ERR} (out) "Error; Wake-up and Power-on Flag; Active Low", 5 ~{STB} (in) "Standby Digital Control Input; Active Low; Pulldown Resistor", 6 EN (in) "Standby Digital Control Input; Active High; Pulldown Resistor", 7 ~{WAKE} (in) "Enable Digital Control Input; Falling and Rising Edges are Both Detected", 8 RTH "Pin for External Termination Resistor at CANH", 9 RTL "Pin for External Termination Resistor at CANL", 10 VCC (power) "5 V Supply Input", 11 CANH (io) "Bus Line; High in Dominant State", 12 CANL (io) "Bus Line; Low in Dominant State", 13 GND (power) "Ground", 14 VBAT (power) "Battery Supply"

## AMIS41682CANM1RG
designator U?
Fault Tolerant CAN Transceiver, 4.75 to 5.25 V, -40 to 125 degC, 14-Pin SOIC, Pb-Free, Tape and Reel; Manufacturer: On Semiconductor; PartNumber: AMIS41682CANM1RG; Data Rate: 125 kbaud; Number of Drivers: 1; VCC Max (V): 5.25; VCC Min (V): 4.75; DatasheetVersion: Rev. 8; PackageVersion: Rev. A, 08/2008; PackageReference: SOIC-14-751AP-01; PackageDescription: 14-Pin Small Outline Integrated Circuit, Body 8.65 x 3.9 mm, Pitch 1.27 mm; Supplier 1: Digi-Key; Supplier Part Number 1: 766-1005-2-ND; Supplier 2: Digi-Key; Supplier Part Number 2: 766-1005-1-ND; Supplier 3: Digi-Key; Supplier Part Number 3: 766-1005-6-ND; Supplier 4: Mouser; Supplier Part Number 4: 863-AMIS41682CANM1RG; Data Transmission Standard: CAN; Number of Receivers: 1; Packing: Tape and Reel; RoHS: TRUE; Mounting Technology: Surface Mount; ComponentLink1Description: Manufacturer URL; ComponentLink1URL: http://www.onsemi.com/; ComponentLink2Description: Datasheet; ComponentLink2URL: http://www.onsemi.com/pub_link/Collateral/AMIS-41682-D.PDF; ComponentLink3Description: Package Specification; ComponentLink3URL: http://www.onsemi.com/pub_link/Collateral/751AP.PDF
footprint ONSC-SOIC-14-751AP-01_N (SOIC, 14-Leads, Body 8.7x4mm, Pitch 1.27mm, IPC Medium Density)
footprint ONSC-SOIC-14-751AP-01_L (SOIC, 14-Leads, Body 8.7x4mm, Pitch 1.27mm, IPC High Density)
footprint ONSC-SOIC-14-751AP-01_M (SOIC, 14-Leads, Body 8.7x4mm, Pitch 1.27mm, IPC Low Density)
pins: 1 INH (hiz) "Inhibit Output for External Voltage Regulator", 2 TXD (in) "Transmit Data Input; Internal Pullup Current", 3 RXD (out) "Receive Data Output", 4 ~{ERR} (out) "Error; Wake-up and Power-on Flag; Active Low", 5 ~{STB} (in) "Standby Digital Control Input; Active Low; Pulldown Resistor", 6 EN (in) "Standby Digital Control Input; Active High; Pulldown Resistor", 7 ~{WAKE} (in) "Enable Digital Control Input; Falling and Rising Edges are Both Detected", 8 RTH "Pin for External Termination Resistor at CANH", 9 RTL "Pin for External Termination Resistor at CANL", 10 VCC (power) "5 V Supply Input", 11 CANH (io) "Bus Line; High in Dominant State", 12 CANL (io) "Bus Line; Low in Dominant State", 13 GND (power) "Ground", 14 VBAT (power) "Battery Supply"

## AMIS41683CANN1G
designator U?
Fault Tolerant CAN Transceiver, 4.75 to 5.25 V, -40 to 125 degC, 14-Pin SOIC, Pb-Free, Tube; Manufacturer: On Semiconductor; PartNumber: AMIS41683CANN1G; Data Rate: 125 kbaud; Number of Drivers: 1; VCC Max (V): 5.25; VCC Min (V): 4.75; DatasheetVersion: Rev. 8; PackageVersion: Rev. A, 08/2008; PackageReference: SOIC-14-751AP-01; PackageDescription: 14-Pin Small Outline Integrated Circuit, Body 8.65 x 3.9 mm, Pitch 1.27 mm; Supplier 1: Digi-Key; Supplier Part Number 1: 766-1017-ND; Supplier 2: Newark; Supplier Part Number 2: 03P1159; Supplier 3: Mouser; Supplier Part Number 3: 863-AMIS41683CANN1G; Data Transmission Standard: CAN; Number of Receivers: 1; Packing: Tube; RoHS: TRUE; Mounting Technology: Surface Mount; ComponentLink1Description: Manufacturer URL; ComponentLink1URL: http://www.onsemi.com/; ComponentLink2Description: Datasheet; ComponentLink2URL: http://www.onsemi.com/pub_link/Collateral/AMIS-41682-D.PDF; ComponentLink3Description: Package Specification; ComponentLink3URL: http://www.onsemi.com/pub_link/Collateral/751AP.PDF
footprint ONSC-SOIC-14-751AP-01_N (SOIC, 14-Leads, Body 8.7x4mm, Pitch 1.27mm, IPC Medium Density)
footprint ONSC-SOIC-14-751AP-01_L (SOIC, 14-Leads, Body 8.7x4mm, Pitch 1.27mm, IPC High Density)
footprint ONSC-SOIC-14-751AP-01_M (SOIC, 14-Leads, Body 8.7x4mm, Pitch 1.27mm, IPC Low Density)
pins: 1 INH (hiz) "Inhibit Output for External Voltage Regulator", 2 TXD (in) "Transmit Data Input; Internal Pullup Current", 3 RXD (oc) "Receive Data Output", 4 ~{ERR} (oc) "Error; Wake-up and Power-on Flag; Active Low", 5 ~{STB} (in) "Standby Digital Control Input; Active Low; Pulldown Resistor", 6 EN (in) "Standby Digital Control Input; Active High; Pulldown Resistor", 7 ~{WAKE} (in) "Enable Digital Control Input; Falling and Rising Edges are Both Detected", 8 RTH "Pin for External Termination Resistor at CANH", 9 RTL "Pin for External Termination Resistor at CANL", 10 VCC (power) "5 V Supply Input", 11 CANH (io) "Bus Line; High in Dominant State", 12 CANL (io) "Bus Line; Low in Dominant State", 13 GND (power) "Ground", 14 VBAT (power) "Battery Supply"

## AMIS41683CANN1RG
designator U?
Fault Tolerant CAN Transceiver, 4.75 to 5.25 V, -40 to 125 degC, 14-Pin SOIC, Pb-Free, Tape and Reel; Manufacturer: On Semiconductor; PartNumber: AMIS41683CANN1RG; Data Rate: 125 kbaud; Number of Drivers: 1; VCC Max (V): 5.25; VCC Min (V): 4.75; DatasheetVersion: Rev. 8; PackageVersion: Rev. A, 08/2008; PackageReference: SOIC-14-751AP-01; PackageDescription: 14-Pin Small Outline Integrated Circuit, Body 8.65 x 3.9 mm, Pitch 1.27 mm; Supplier 1: Digi-Key; Supplier Part Number 1: AMIS41683CANN1RG-ND; Supplier 2: Mouser; Supplier Part Number 2: 863-AMIS41683CANN1RG; Data Transmission Standard: CAN; Number of Receivers: 1; Packing: Tape and Reel; RoHS: TRUE; Mounting Technology: Surface Mount; ComponentLink1Description: Manufacturer URL; ComponentLink1URL: http://www.onsemi.com/; ComponentLink2Description: Datasheet; ComponentLink2URL: http://www.onsemi.com/pub_link/Collateral/AMIS-41682-D.PDF; ComponentLink3Description: Package Specification; ComponentLink3URL: http://www.onsemi.com/pub_link/Collateral/751AP.PDF
footprint ONSC-SOIC-14-751AP-01_N (SOIC, 14-Leads, Body 8.7x4mm, Pitch 1.27mm, IPC Medium Density)
footprint ONSC-SOIC-14-751AP-01_L (SOIC, 14-Leads, Body 8.7x4mm, Pitch 1.27mm, IPC High Density)
footprint ONSC-SOIC-14-751AP-01_M (SOIC, 14-Leads, Body 8.7x4mm, Pitch 1.27mm, IPC Low Density)
pins: 1 INH (hiz) "Inhibit Output for External Voltage Regulator", 2 TXD (in) "Transmit Data Input; Internal Pullup Current", 3 RXD (oc) "Receive Data Output", 4 ~{ERR} (oc) "Error; Wake-up and Power-on Flag; Active Low", 5 ~{STB} (in) "Standby Digital Control Input; Active Low; Pulldown Resistor", 6 EN (in) "Standby Digital Control Input; Active High; Pulldown Resistor", 7 ~{WAKE} (in) "Enable Digital Control Input; Falling and Rising Edges are Both Detected", 8 RTH "Pin for External Termination Resistor at CANH", 9 RTL "Pin for External Termination Resistor at CANL", 10 VCC (power) "5 V Supply Input", 11 CANH (io) "Bus Line; High in Dominant State", 12 CANL (io) "Bus Line; Low in Dominant State", 13 GND (power) "Ground", 14 VBAT (power) "Battery Supply"

## AMIS42665TJAA1G
designator U?
High-Speed Low Power CAN Transceiver, 4.75 to 5.25 V, -40 to 125 degC, 8-Pin SOIC, Pb-Free, Tube; Manufacturer: On Semiconductor; PartNumber: AMIS42665TJAA1G; Data Rate: 1 Mb/s; Number of Drivers: 1; VCC Max (V): 5.25; VCC Min (V): 4.75; DatasheetVersion: Rev. 10; PackageVersion: Rev. AK, 02/2011; PackageReference: SOIC-8-751-07; PackageDescription: 8-Pin Small Outline Integrated Circuit, Body 4.9 x 3.9 mm, Pitch 1.27 mm; Supplier 1: Digi-Key; Supplier Part Number 1: 766-1018-ND; Supplier 2: Newark; Supplier Part Number 2: 03P1160; Supplier 3: Mouser; Supplier Part Number 3: 863-AMIS42665TJAA1G; Data Transmission Standard: CAN; Number of Receivers: 1; Packing: Tube; RoHS: TRUE; Mounting Technology: Surface Mount; ComponentLink1Description: Manufacturer URL; ComponentLink1URL: http://www.onsemi.com/; ComponentLink2Description: Datasheet; ComponentLink2URL: http://www.onsemi.com/pub_link/Collateral/AMIS-42665-D.PDF; ComponentLink3Description: Package Specification; ComponentLink3URL: http://www.onsemi.com/pub_link/Collateral/751-07.PDF
footprint ONSC-SOIC-8-751-07_V (SOIC, 8-Leads, Body 4.9x3.9mm, Pitch 1.27mm)
pins: 1 TXD (in) "Transmit Data Input; Low Input --> Dominant Driver; Internal Pullup Current", 2 GND (power) "Ground", 3 VCC (power) "Supply Voltage", 4 RXD (out) "Receive Data Output; Dominant transmitter --> Low Output", 5 VSPLIT (out) "Common-Mode Stabilization Output", 6 CANL "Low-Level CAN Bus Line (Low in Dominant Mode)", 7 CANH "High-Level CAN Bus Line (High in Dominant Mode)", 8 STB (in) "Standby Mode Control Input"

## AMIS42665TJAA1RG
designator U?
High-Speed Low Power CAN Transceiver, 4.75 to 5.25 V, -40 to 125 degC, 8-Pin SOIC, Pb-Free, Tape and Reel; Manufacturer: On Semiconductor; PartNumber: AMIS42665TJAA1RG; Data Rate: 1 Mb/s; Number of Drivers: 1; VCC Max (V): 5.25; VCC Min (V): 4.75; DatasheetVersion: Rev. 10; PackageVersion: Rev. AK, 02/2011; PackageReference: SOIC-8-751-07; PackageDescription: 8-Pin Small Outline Integrated Circuit, Body 4.9 x 3.9 mm, Pitch 1.27 mm; Supplier 1: Digi-Key; Supplier Part Number 1: 766-1006-2-ND; Supplier 2: Digi-Key; Supplier Part Number 2: 766-1006-1-ND; Supplier 3: Digi-Key; Supplier Part Number 3: 766-1006-6-ND; Supplier 4: Newark; Supplier Part Number 4: 03P1161; Supplier 5: Mouser; Supplier Part Number 5: 863-AMIS42665TJAA1RG; Data Transmission Standard: CAN; Number of Receivers: 1; Packing: Tape and Reel; RoHS: TRUE; Mounting Technology: Surface Mount; ComponentLink1Description: Manufacturer URL; ComponentLink1URL: http://www.onsemi.com/; ComponentLink2Description: Datasheet; ComponentLink2URL: http://www.onsemi.com/pub_link/Collateral/AMIS-42665-D.PDF; ComponentLink3Description: Package Specification; ComponentLink3URL: http://www.onsemi.com/pub_link/Collateral/751-07.PDF
footprint ONSC-SOIC-8-751-07_V (SOIC, 8-Leads, Body 4.9x3.9mm, Pitch 1.27mm)
pins: 1 TXD (in) "Transmit Data Input; Low Input --> Dominant Driver; Internal Pullup Current", 2 GND (power) "Ground", 3 VCC (power) "Supply Voltage", 4 RXD (out) "Receive Data Output; Dominant transmitter --> Low Output", 5 VSPLIT (out) "Common-Mode Stabilization Output", 6 CANL "Low-Level CAN Bus Line (Low in Dominant Mode)", 7 CANH "High-Level CAN Bus Line (High in Dominant Mode)", 8 STB (in) "Standby Mode Control Input"

## AMIS42665TJAA3L
designator U?
High-Speed Low Power CAN Transceiver, 4.75 to 5.25 V, -40 to 125 degC, 8-Pin SOIC, Pb-Free, Tube; Manufacturer: On Semiconductor; PartNumber: AMIS42665TJAA3L; Data Rate: 1 Mb/s; Number of Drivers: 1; VCC Max (V): 5.25; VCC Min (V): 4.75; DatasheetVersion: Rev. 10; PackageVersion: Rev. AK, 02/2011; PackageReference: SOIC-8-751-07; PackageDescription: 8-Pin Small Outline Integrated Circuit, Body 4.9 x 3.9 mm, Pitch 1.27 mm; Supplier 1: Mouser; Supplier Part Number 1: 863-AMIS42665TJAA3L; Data Transmission Standard: CAN; Number of Receivers: 1; Packing: Tube; RoHS: TRUE; Mounting Technology: Surface Mount; ComponentLink1Description: Manufacturer URL; ComponentLink1URL: http://www.onsemi.com/; ComponentLink2Description: Datasheet; ComponentLink2URL: http://www.onsemi.com/pub_link/Collateral/AMIS-42665-D.PDF; ComponentLink3Description: Package Specification; ComponentLink3URL: http://www.onsemi.com/pub_link/Collateral/751-07.PDF
footprint ONSC-SOIC-8-751-07_V (SOIC, 8-Leads, Body 4.9x3.9mm, Pitch 1.27mm)
pins: 1 TXD (in) "Transmit Data Input; Low Input --> Dominant Driver; Internal Pullup Current", 2 GND (power) "Ground", 3 VCC (power) "Supply Voltage", 4 RXD (out) "Receive Data Output; Dominant transmitter --> Low Output", 5 VSPLIT (out) "Common-Mode Stabilization Output", 6 CANL "Low-Level CAN Bus Line (Low in Dominant Mode)", 7 CANH "High-Level CAN Bus Line (High in Dominant Mode)", 8 STB (in) "Standby Mode Control Input"

## AMIS42665TJAA3RL
designator U?
High-Speed Low Power CAN Transceiver, 4.75 to 5.25 V, -40 to 125 degC, 8-Pin SOIC, Pb-Free, Tape and Reel; Manufacturer: On Semiconductor; PartNumber: AMIS42665TJAA3RL; Data Rate: 1 Mb/s; Number of Drivers: 1; VCC Max (V): 5.25; VCC Min (V): 4.75; DatasheetVersion: Rev. 10; PackageVersion: Rev. AK, 02/2011; PackageReference: SOIC-8-751-07; PackageDescription: 8-Pin Small Outline Integrated Circuit, Body 4.9 x 3.9 mm, Pitch 1.27 mm; Supplier 1: Mouser; Supplier Part Number 1: 863-AMIS42665TJAA3RL; Data Transmission Standard: CAN; Number of Receivers: 1; Packing: Tape and Reel; RoHS: TRUE; Mounting Technology: Surface Mount; ComponentLink1Description: Manufacturer URL; ComponentLink1URL: http://www.onsemi.com/; ComponentLink2Description: Datasheet; ComponentLink2URL: http://www.onsemi.com/pub_link/Collateral/AMIS-42665-D.PDF; ComponentLink3Description: Package Specification; ComponentLink3URL: http://www.onsemi.com/pub_link/Collateral/751-07.PDF
footprint ONSC-SOIC-8-751-07_V (SOIC, 8-Leads, Body 4.9x3.9mm, Pitch 1.27mm)
pins: 1 TXD (in) "Transmit Data Input; Low Input --> Dominant Driver; Internal Pullup Current", 2 GND (power) "Ground", 3 VCC (power) "Supply Voltage", 4 RXD (out) "Receive Data Output; Dominant transmitter --> Low Output", 5 VSPLIT (out) "Common-Mode Stabilization Output", 6 CANL "Low-Level CAN Bus Line (Low in Dominant Mode)", 7 CANH "High-Level CAN Bus Line (High in Dominant Mode)", 8 STB (in) "Standby Mode Control Input"

## AMIS42665TJAA6G
designator U?
High-Speed Low Power CAN Transceiver, 4.75 to 5.25 V, -40 to 125 degC, 8-Pin SOIC, Pb-Free, Tube; Manufacturer: On Semiconductor; PartNumber: AMIS42665TJAA6G; Data Rate: 1 Mb/s; Number of Drivers: 1; VCC Max (V): 5.25; VCC Min (V): 4.75; DatasheetVersion: Rev. 10; PackageVersion: Rev. AK, 02/2011; PackageReference: SOIC-8-751-07; PackageDescription: 8-Pin Small Outline Integrated Circuit, Body 4.9 x 3.9 mm, Pitch 1.27 mm; Supplier 1: Mouser; Supplier Part Number 1: 863-AMIS42665TJAA6G; Data Transmission Standard: CAN; Number of Receivers: 1; Packing: Tube; RoHS: TRUE; Mounting Technology: Surface Mount; ComponentLink1Description: Manufacturer URL; ComponentLink1URL: http://www.onsemi.com/; ComponentLink2Description: Datasheet; ComponentLink2URL: http://www.onsemi.com/pub_link/Collateral/AMIS-42665-D.PDF; ComponentLink3Description: Package Specification; ComponentLink3URL: http://www.onsemi.com/pub_link/Collateral/751-07.PDF
footprint ONSC-SOIC-8-751-07_V (SOIC, 8-Leads, Body 4.9x3.9mm, Pitch 1.27mm)
pins: 1 TXD (in) "Transmit Data Input; Low Input --> Dominant Driver; Internal Pullup Current", 2 GND (power) "Ground", 3 VCC (power) "Supply Voltage", 4 RXD (out) "Receive Data Output; Dominant transmitter --> Low Output", 5 VSPLIT (out) "Common-Mode Stabilization Output", 6 CANL "Low-Level CAN Bus Line (Low in Dominant Mode)", 7 CANH "High-Level CAN Bus Line (High in Dominant Mode)", 8 STB (in) "Standby Mode Control Input"